# Altium footprint library J1021AS512VDCP45.PcbLib: 1 footprints
Each footprint in its own frame and in the unit in brackets; x right, y up, seen from the top. Pads: shape width x height; smd on the part's side, far side on the other; paste and mask are expansions set on the pad; w line width, h text height; cw(c..) or ccw(c..) is an arc to the next point about the centre after c.
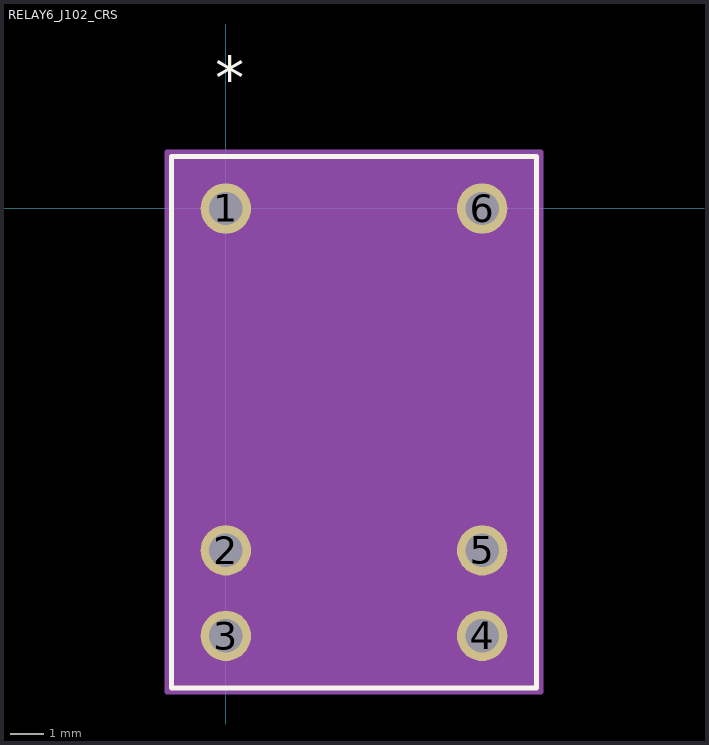
[diagram p0: the footprint, top view; thin cyan lines are the x and y axes]

## RELAY6_J102_CRS [mil]
pads (6):
  round 59 / inner round 60 / far side round 59 hole 39 paste-29.5 mask+0: 1(0,0) 2(0,-400) 3(0,-500) 4(300,-500) 5(300,-400) 6(300,0)
Top Overlay:
  lines w6: -63.5,-561 363.5,-561 363.5,61 -63.5,61 -63.5,-561
  text "*" at -12.5,128.67 h50
Mechanical 13:
  circle w0: c29.5,0 r0
  lines w0: 138,56 ccw(c150,56) 162,56
  lines w1: -58.5,-556 358.5,-556 358.5,56 -58.5,56 -58.5,-556
  text "*" at -12.5,16.67 h50
Mechanical 15:
  region: 368.5,-566 -68.5,-566 -68.5,66 368.5,66
  region: 358.5,-556 -58.5,-556 -58.5,56 358.5,56
  lines w6: -68.5,-566 -68.5,66 368.5,66 368.5,-566 -68.5,-566
3D body "RELAY6_J102_CRS.step": height 457.01, standoff -310, extent -58.5,-555.98 358.5,55.98